# Altium schematic symbol library STUSB4500BJR .SchLib: 1 symbol
Pins are listed as number, name and electrical type; pins without a type are passive.

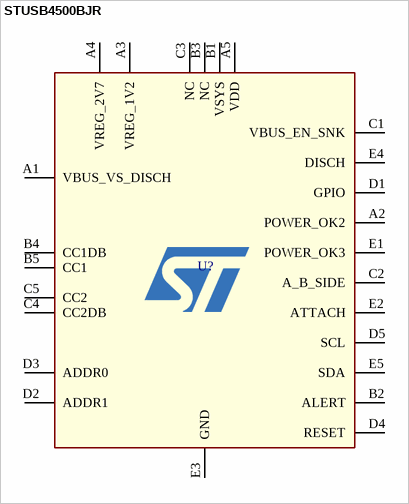
[diagram p0: symbol STUSB4500BJR ]

## STUSB4500BJR 
designator U?
Standalone USB PD sink controller with short-to-VBUS protections
footprint WLCSP 2.6x2.6x0.5 (WLCSP (2.6x2.6x0.5) 25 bumps)
pins: A1 VBUS_VS_DISCH, A2 POWER_OK2, A3 VREG_1V2, A4 VREG_2V7, A5 VDD, B1 VSYS, B2 ALERT, B3 NC, B4 CC1DB, B5 CC1, C1 VBUS_EN_SNK, C2 A_B_SIDE, C3 NC, C4 CC2DB, C5 CC2, D1 GPIO, D2 ADDR1, D3 ADDR0, D4 RESET, D5 SCL, E1 POWER_OK3, E2 ATTACH, E3 GND, E4 DISCH, E5 SDA